# EAGLE library part AT24C02C-SSHM-B (library atmel)
SERIAL EEPROM IC Memory Size:2Kbit,8-SOIC
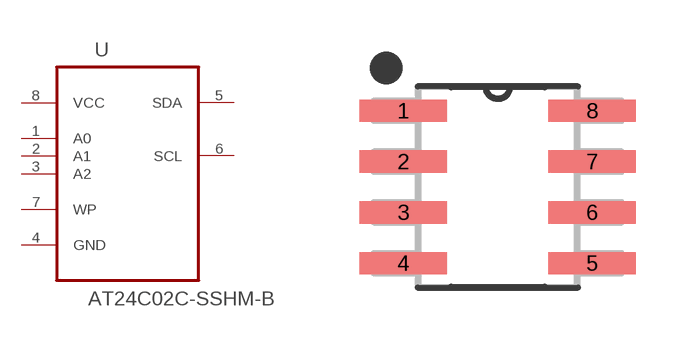
[diagram p1: symbol with the pads of SOIC127P600X175-8N; footprint SOIC127P600X175-8N]

Designator prefix U

## AT24C02C-SSHM-B (MPN: AT24C02C-SSHM-B; OC_FARNELL: 1971995)  [SOIC127P600X175-8N]
1  A0  in
2  A1  in
3  A2  in
4  GND  pwr
5  SDA
6  SCL  in
7  WP  in
8  VCC  pwr

## Footprint SOIC127P600X175-8N (pad centres in mm)
smd 2.184 x 0.559: 1 -2.362,1.905; 2 -2.362,0.635; 3 -2.362,-0.635; 4 -2.362,-1.905; 5 2.362,-1.905; 6 2.362,-0.635; 7 2.362,0.635; 8 2.362,1.905